# Altium footprint library Capacitors.PcbLib: 4 footprints
Each footprint in its own frame and in the unit in brackets; x right, y up, seen from the top. Pads: shape width x height; smd on the part's side, far side on the other; paste and mask are expansions set on the pad; w line width, h text height; cw(c..) or ccw(c..) is an arc to the next point about the centre after c.
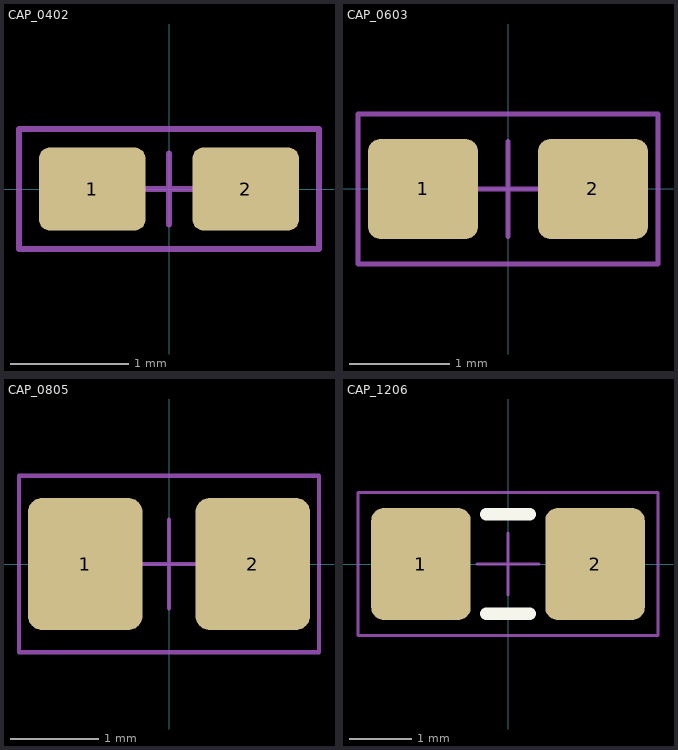
[diagram p0: the footprints below, top view; thin cyan lines are the x and y axes]

## CAP_0402 [mm] "0402 (1004 Metric) SMD Capacitor, Reference IPC-SM-782"
height 0.6
pads (2):
  rrect25% 0.9x0.7 smd: 1(-0.65,0) 2(0.65,0)
Top Courtyard:
  lines w0.05: -0.3,0 0.3,0 ; 0,-0.3 0,0.3 ; -1.27,-0.508 1.27,-0.508 1.27,0.508 -1.27,0.508 -1.27,-0.508
3D body "CAP_0402.step": height 0.6, standoff 0, extent -0.55,-0.3 0.55,0.3

## CAP_0603 [mm] "0603 (1608 Metric) SMD Capacitor, Reference IPC-SM-782"
height 0.85
pads (2):
  rrect25% 1.1x1 smd: 1(-0.85,0) 2(0.85,0)
Top Courtyard:
  lines w0.05: -0.475,0 0.475,0 ; 0,-0.475 0,0.475 ; -1.5,-0.75 -1.5,0.75 1.5,0.75 1.5,-0.75 -1.5,-0.75
3D body "CAP_0603.step": height 0.85, standoff 0, extent -0.875,-0.475 0.875,0.475

## CAP_0805 [mm] "0805 (2012 Metric) SMD Capacitor, Reference IPC-SM-782"
height 1.1
pads (2):
  rrect25% 1.3x1.5 smd: 1(-0.95,0) 2(0.95,0)
Top Courtyard:
  lines w0.05: -0.5,0 0.5,0 ; 0,-0.5 0,0.5 ; -1.7,-1 -1.7,1 1.7,1 1.7,-1 -1.7,-1
3D body "CAP_0805.step": height 1.1, standoff 0, extent -1.1,-0.725 1.1,0.725

## CAP_1206 [mm] "1206 (3216 Metric) SMD Capacitor, Reference IPC-SM-782"
height 1.35
pads (2):
  rrect25% 1.6x1.8 smd: 1(-1.4,0) 2(1.4,0)
Top Overlay:
  lines w0.2: -0.35,-0.8 0.35,-0.8 ; -0.35,0.8 0.35,0.8
Top Courtyard:
  lines w0.05: -0.5,0 0.5,0 ; 0,-0.5 0,0.5 ; -2.413,-1.15 2.413,-1.15 2.413,1.15 -2.413,1.15 -2.413,-1.15
3D body "CAP_1206_.step": height 1.35, standoff 0, extent -1.7,-0.9 1.7,0.9